# Altium schematic symbol library BSC031N06NS3GATMA1.SchLib: 1 symbol
Pins are listed as number, name and electrical type; pins without a type are passive.

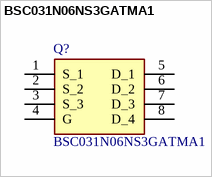
[diagram p0: symbol BSC031N06NS3GATMA1]

## BSC031N06NS3GATMA1
designator Q?
Infineon BSC031N06NS3GATMA1 N-channel MOSFET, 100 A, 60 V OptiMOS 3, 8-Pin TDSON; Arrow Part Number: BSC031N06NS3GATMA1; Arrow Price/Stock: https://www.arrow.com/en/products/bsc031n06ns3gatma1/infineon-technologies-ag; Manufacturer_Name: Infineon; Manufacturer_Part_Number: BSC031N06NS3GATMA1; Datasheet Link: https://www.arrow.com/en/products/bsc031n06ns3gatma1/infineon-technologies-ag
footprint PG-TDSON-8_1
pins: 1 S_1, 2 S_2, 3 S_3, 4 G, 5 D_1, 6 D_2, 7 D_3, 8 D_4